# Altium integrated library RES2512.IntLib: 1 symbol
Pins are listed as number, name and electrical type; pins without a type are passive.

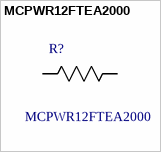
[diagram p0: symbol MCPWR12FTEA2000]

## MCPWR12FTEA2000
designator R?
RESISTOR, 2512, 200R 1%, 1.5W; Resistance: 200ohm; Resistance Tolerance: Â± 1%; Power Rating: 1.5W; Voltage Rating: 50...; MF: Multicomp; Package: 2512 Multicomp; MP: MCPWR12FTEA2000; Availability: Bad; Price: 0.17 USD; SnapEDA_Link: https://www.snapeda.com/parts/MCPWR12FTEA2000/Multicomp/view-part/?ref=snap; Value: *
footprint RESC6332X71N
pins: 1 R1, 2 R2